# EAGLE library part TEENSY4.0_SIMPLE (library Teensy4.0_SIMPLE)
Tennsy 4.0 simple layout (no underside pins)
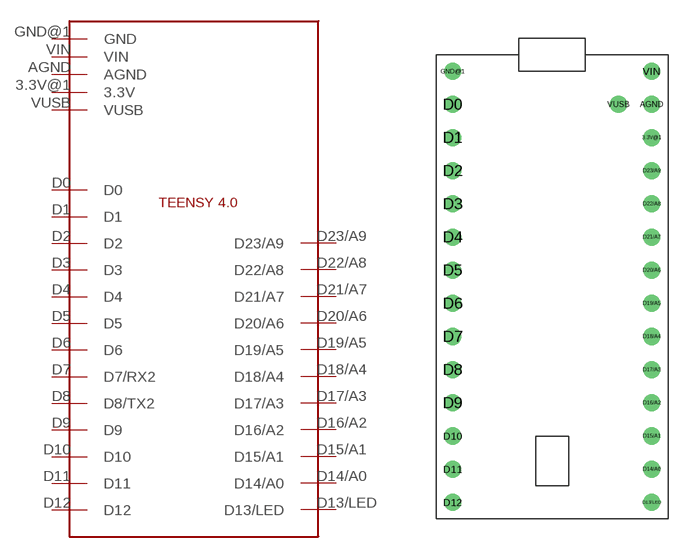
[diagram p0: symbol with the pads of TEENSY4.0_SIMPLE; footprint TEENSY4.0_SIMPLE]

Designator prefix MC

## TEENSY4.0_SIMPLE  [TEENSY4.0_SIMPLE]
3.3V@1  3.3V
AGND  AGND
D0  D0
D1  D1
D2  D2
D3  D3
D4  D4
D5  D5
D6  D6
D7  D7/RX2
D8  D8/TX2
D9  D9
D10  D10
D11  D11
D12  D12
D13/LED  D13/LED
D14/A0  D14/A0
D15/A1  D15/A1
D16/A2  D16/A2
D17/A3  D17/A3
D18/A4  D18/A4
D19/A5  D19/A5
D20/A6  D20/A6
D21/A7  D21/A7
D22/A8  D22/A8
D23/A9  D23/A9
GND@1  GND
VIN  VIN
VUSB  VUSB

## Footprint TEENSY4.0_SIMPLE (pad centres in mm)
drill 0.8: 3.3V@1 7.62,10.16; AGND 7.62,12.7; D0 -7.62,12.7; D1 -7.62,10.16; D2 -7.62,7.62; D3 -7.62,5.08; D4 -7.62,2.54; D5 -7.62,0; D6 -7.62,-2.54; D7 -7.62,-5.08; D8 -7.62,-7.62; D9 -7.62,-10.16; D10 -7.62,-12.7; D11 -7.62,-15.24; D12 -7.62,-17.78; D13/LED 7.62,-17.78; D14/A0 7.62,-15.24; D15/A1 7.62,-12.7; D16/A2 7.62,-10.16; D17/A3 7.62,-7.62; D18/A4 7.62,-5.08; D19/A5 7.62,-2.54; D20/A6 7.62,0; D21/A7 7.62,2.54; D22/A8 7.62,5.08; D23/A9 7.62,7.62; GND@1 -7.62,15.24; VIN 7.62,15.24; VUSB 5.08,12.7